# Altium schematic symbol library USB4085-GF-A.SchLib: 1 symbol
Pins are listed as number, name and electrical type; pins without a type are passive.

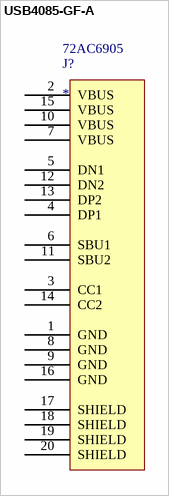
[diagram p0: symbol USB4085-GF-A]

## USB4085-GF-A
designator J?  Supplier Part Number 1: 72AC6905
USB4085 Series 20 V PCB Top Mount USB 2.0 Type C Receptacle; Manufacturer 1: Global Connector Technology; Manufacturer Part Number 1: USB4085-GF-A; USB Standard: USB 2.0; Number of Positions: 16; Supplier 1: Newark; RoHS: No; Pricing 1: 1=1.38000, 10=1.23000, 25=1.15000, 50=1.06000, 100=0.91100, 250=0.83700, 700=0.77300, 1400=0.72600 (USD); Contact Material: Copper Alloy; Contact Plating: Gold; Gender: Receptacle; Orientation: Right Angle; ComponentLink1URL: https://datasheet.ciiva.com/71788/2674755-71788146.pdf?src-supplier=Element14; ComponentLink1Description: https://datasheet.ciiva.com/71788/2674755-71788146.pdf?src-supplier=Element14; ComponentLink2URL: https://datasheet.ciiva.com/71788/usb4085-71788147.pdf?src-supplier=Digi-Key; ComponentLink2Description: https://datasheet.ciiva.com/71788/usb4085-71788147.pdf?src-supplier=Digi-Key
footprint GCT_USB4085-GF-A_MN
pins: 1 GND, 2 VBUS, 3 CC1, 4 DP1, 5 DN1, 6 SBU1, 7 VBUS, 8 GND, 9 GND, 10 VBUS, 11 SBU2, 12 DN2, 13 DP2, 14 CC2, 15 VBUS, 16 GND, 17 SHIELD, 18 SHIELD, 19 SHIELD, 20 SHIELD